# EAGLE library part LPC954 (library lpc954)
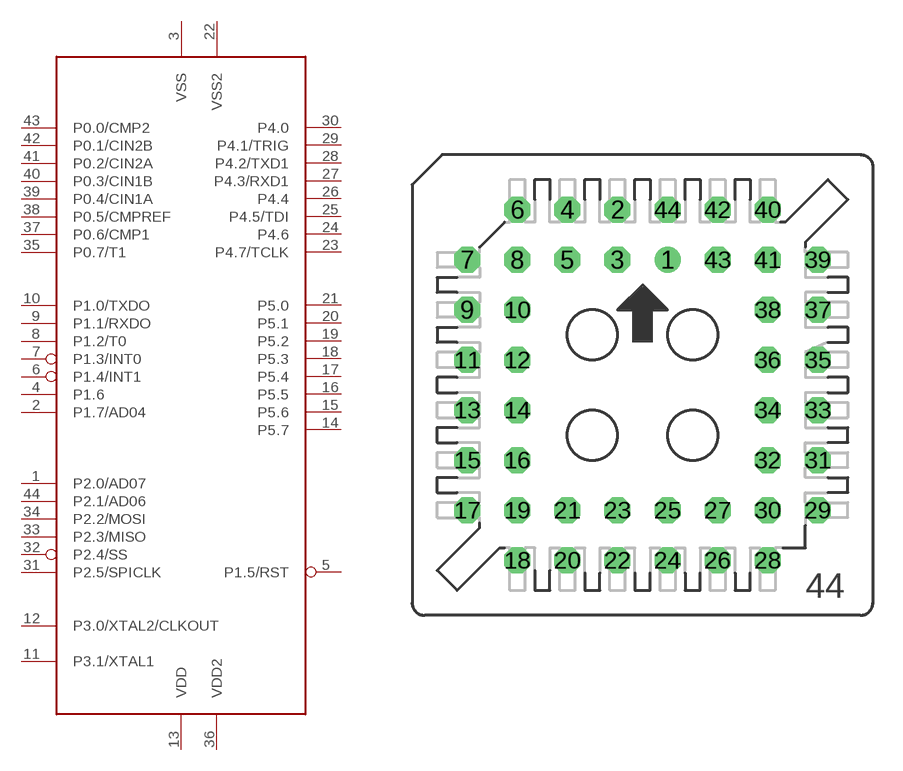
[diagram p0: symbol with the pads of LPC954; footprint LPC954]

Designator prefix -

## LPC954  [LPC954]
1  P2.0/AD07
2  P1.7/AD04
3  VSS
4  P1.6
5  P1.5/RST
6  P1.4/INT1
7  P1.3/INT0
8  P1.2/T0
9  P1.1/RXDO
10  P1.0/TXDO
11  P3.1/XTAL1
12  P3.0/XTAL2/CLKOUT
13  VDD
14  P5.7
15  P5.6
16  P5.5
17  P5.4
18  P5.3
19  P5.2
20  P5.1
21  P5.0
22  VSS2
23  P4.7/TCLK
24  P4.6
25  P4.5/TDI
26  P4.4
27  P4.3/RXD1
28  P4.2/TXD1
29  P4.1/TRIG
30  P4.0
31  P2.5/SPICLK
32  P2.4/SS
33  P2.3/MISO
34  P2.2/MOSI
35  P0.7/T1
36  VDD2
37  P0.6/CMP1
38  P0.5/CMPREF
39  P0.4/CIN1A
40  P0.3/CIN1B
41  P0.2/CIN2A
42  P0.1/CIN2B
43  P0.0/CMP2
44  P2.1/AD06

## Footprint LPC954 (pad centres in mm)
drill 0.813 round: 1 1.27,6.35
drill 0.813 octagon: 2 -1.27,8.89; 3 -1.27,6.35; 4 -3.81,8.89; 5 -3.81,6.35; 6 -6.35,8.89; 7 -8.89,6.35; 8 -6.35,6.35; 9 -8.89,3.81; 10 -6.35,3.81; 11 -8.89,1.27; 12 -6.35,1.27; 13 -8.89,-1.27; 14 -6.35,-1.27; 15 -8.89,-3.81; 16 -6.35,-3.81; 17 -8.89,-6.35; 18 -6.35,-8.89; 19 -6.35,-6.35; 20 -3.81,-8.89; 21 -3.81,-6.35; 22 -1.27,-8.89; 23 -1.27,-6.35; 24 1.27,-8.89; 25 1.27,-6.35; 26 3.81,-8.89; 27 3.81,-6.35; 28 6.35,-8.89; 29 8.89,-6.35; 30 6.35,-6.35; 31 8.89,-3.81; 32 6.35,-3.81; 33 8.89,-1.27; 34 6.35,-1.27; 35 8.89,1.27; 36 6.35,1.27; 37 8.89,3.81; 38 6.35,3.81; 39 8.89,6.35; 40 6.35,8.89; 41 6.35,6.35; 42 3.81,8.89; 43 3.81,6.35; 44 1.27,8.89